# Altium footprint library 蜂鸣器.PcbLib: 1 footprints
Each footprint in its own frame and in the unit in brackets; x right, y up, seen from the top. Pads: shape width x height; smd on the part's side, far side on the other; paste and mask are expansions set on the pad; w line width, h text height; cw(c..) or ccw(c..) is an arc to the next point about the centre after c.
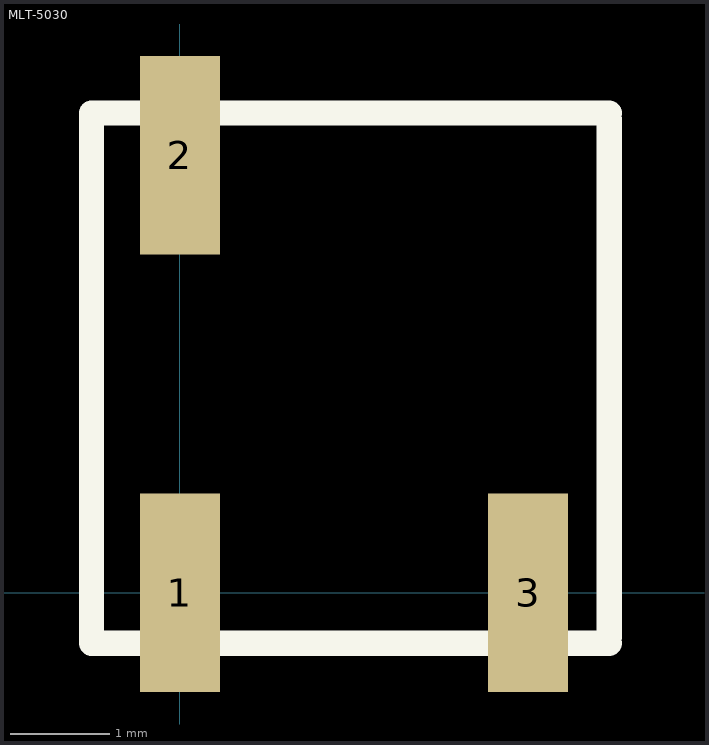
[diagram p0: the footprint, top view; thin cyan lines are the x and y axes]

## MLT-5030 [mm]
pads (3):
  rect 0.8x2 smd: 1(0,0) 2(0,4.4) 3(3.5,0)
Top Overlay:
  lines w0.254: 4.318,-0.508 -0.889,-0.508 -0.889,4.826 4.318,4.826 ; 4.318,-0.445 4.318,4.763